# EAGLE library part CD74HC4051M96 (library NASA_LIB)
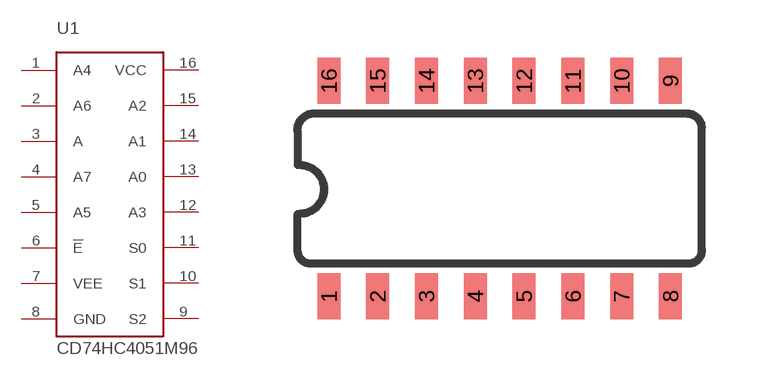
[diagram p45: symbol with the pads of S016; footprint S016]

Designator prefix U1

## CD74HC4051M96  [S016]
1  A4
2  A6
3  A
4  A7
5  A5
6  !E
7  VEE
8  GND
9  S2
10  S1
11  S0
12  A3
13  A0
14  A1
15  A2
16  VCC

## Footprint S016 (pad centres in mm)
smd 0.6 x 1.2: 1 -4.445,-2.8; 2 -3.175,-2.8; 3 -1.905,-2.8; 4 -0.635,-2.8; 5 0.635,-2.8; 6 1.905,-2.8; 7 3.175,-2.8; 8 4.445,-2.8; 9 4.445,2.8; 10 3.175,2.8; 11 1.905,2.8; 12 0.635,2.8; 13 -0.635,2.8; 14 -1.905,2.8; 15 -3.175,2.8; 16 -4.445,2.8